# EAGLE library part TPS55330 (library gimbal)
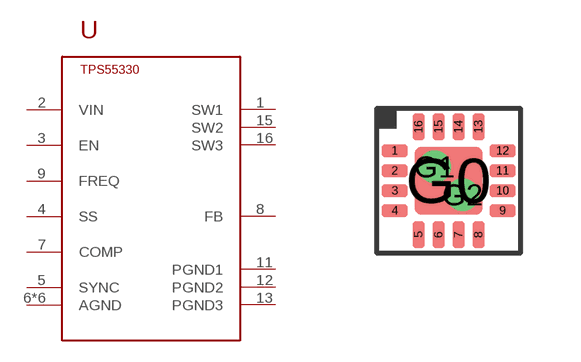
[diagram p3: symbol with the pads of PQFN16; footprint PQFN16]

Designator prefix -

## TPS55330PQFN16  [PQFN16]
1  SW1
2  VIN
3  EN
4  SS
5  SYNC
6  AGND
7  COMP
8  FB
9  FREQ
10  AGND
11  PGND1
12  PGND2
13  PGND3
14  AGND
15  SW2
16  SW3
G0  AGND
G1  AGND
G2  AGND

## Footprint PQFN16 (pad centres in mm)
smd 0.65 x 0.3: 1 -1.35,0.75; 2 -1.35,0.25; 3 -1.35,-0.25; 4 -1.35,-0.75; 9 1.35,-0.75; 10 1.35,-0.25; 11 1.35,0.25; 12 1.35,0.75
smd 0.3 x 0.65: 5 -0.75,-1.35; 6 -0.25,-1.35; 7 0.25,-1.35; 8 0.75,-1.35; 13 0.75,1.35; 14 0.25,1.35; 15 -0.25,1.35; 16 -0.75,1.35
smd 1.7 x 1.7: G0 0,0
drill 0.305: G1 -0.35,0.35; G2 0.35,-0.35